# Altium schematic symbol library NCP114ASN.SchLib: 1 symbol
Pins are listed as number, name and electrical type; pins without a type are passive.

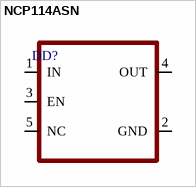
[diagram p0: symbol NCP114ASN]

## NCP114ASN
designator DD?
pins: 1 IN, 2 GND, 3 EN, 4 OUT, 5 NC